# Altium footprint library adafruit.PCBLIB: 643 footprints (part 36 of 41)
Each footprint in its own frame and in the unit in brackets; x right, y up, seen from the top. Pads: shape width x height; smd on the part's side, far side on the other; paste and mask are expansions set on the pad; w line width, h text height; cw(c..) or ccw(c..) is an arc to the next point about the centre after c.
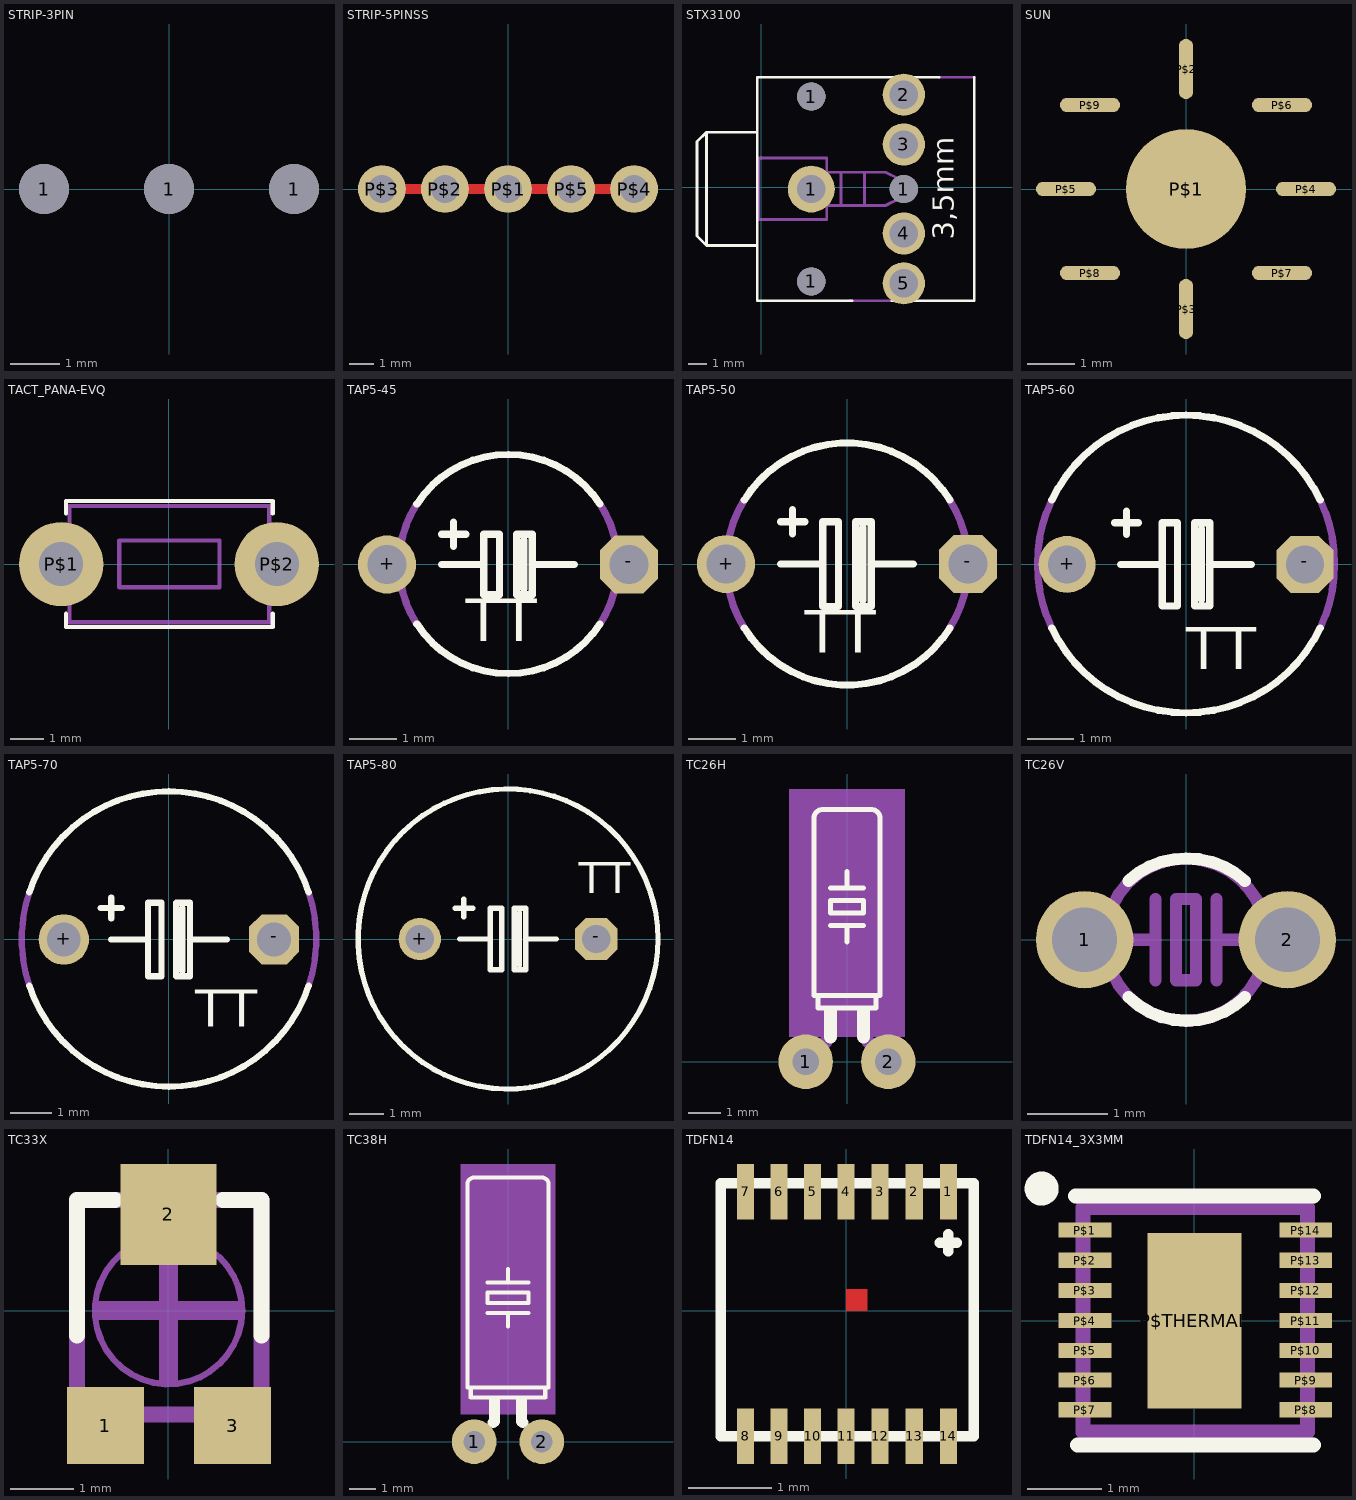
[diagram p35: the footprints below, top view; thin cyan lines are the x and y axes]

## STRIP-3PIN [mil]
pads (3):
  round 40 hole 40: 1(-100,0) 1(0,0) 1(100,0)
Top Layer:
  region: 0,0 10,0 10,10 0,10

## STRIP-5PINSS [mil]
pads (5):
  round 76 hole 44: P$1(0,0) P$2(-100,0) P$3(-200,0) P$4(200,0) P$5(100,0)
Top Layer:
  lines w16: -200,0 200,0

## STX3100 [mil]
pads (8):
  round 60 hole 60: 1(107,-200.79) 1(107,193) 1(304,-3.94)
  round 100 hole 60: 1(107,-3.94)
  round 90 hole 60: 2(304,197) 3(304,91) 4(304,-98.43) 5(304,-204.72)
Top Overlay:
  lines w6: 194,-241.81 -8.35,-241.81 -8.35,-123.94 ; 279,-241.81 454,-241.81 454,234 ; 379,234 -8.35,234 -8.35,117 ; -116.54,-123.94 -8.35,-123.94 ; -116.54,-123.94 -136.54,-103.94 -136.54,97 -116.54,117 ; -116.54,-123.94 -116.54,117 ; -116.54,117 -8.35,117 ; -8.35,-123.94 -8.35,117 ; 454,234 454,234
  text "3,5mm" at 425,-111.46 h77.5
Courtyard Bottom:
  lines w6: 190,-241.81 275,-241.81 ; 379,234 454,234 ; 140,-38.94 140,32 ; 140,-38.94 140,-68.94 -5.16,-68.94 -5.16,62 140,62 140,32 ; 140,-38.94 170,-38.94 ; 140,32 170,32 ; 170,-38.94 220,-38.94 ; 170,-38.94 170,32 ; 170,32 220,32 ; 220,-38.94 220,32 ; 220,-38.94 265,-38.94 295,-23.94 295,17 265,32 220,32

## SUN [mil]
pads (9):
  rrect100% 100x100 smd: P$1(0,0)
  rrect100% 12x50 smd: P$2(0,100) P$3(0,-100)
  rrect100% 50x12 smd: P$4(100,0) P$5(-100,0) P$6(80,70) P$7(80,-70) P$8(-80,-70) P$9(-80,70)

## TACT_PANA-EVQ [mil]
pads (2):
  round 100 hole 52: P$1(-127.95,0) P$2(128,0)
Top Overlay:
  lines w5: -122.05,-59.06 -122.05,-74.8 123,-74.8 123,-59.06 ; -122.05,60 -122.05,75 123,75 123,60
Courtyard Bottom:
  lines w5: -118.11,-19.68 -118.11,-68.9 119,-68.9 119,-19.68 ; -118.11,-19.68 -118.11,20 ; -118.11,-19.68 -118.11,20 ; -118.11,-19.68 -155.51,-19.68 -155.51,0 -155.51,20 -118.11,20 ; -118.11,20 -118.11,69 119,69 119,20 ; 119,-19.68 119,20 ; 119,-19.68 119,20 ; 119,-19.68 156,-19.68 156,20 ; 119,20 156,20 ; 119,20 156,20 ; -59.06,-27.56 60,-27.56 60,28 -59.06,28 -59.06,-27.56

## TAP5-45 [mil]
pads (2):
  round 48 hole 32: +(-100,0)
  oct 48x48 hole 32: -(100,0)
Top Overlay:
  lines w6: -75.37,-49.18 ccw(c0.32,0.21) 76,-49.18 ; -75.37,50 cw(c0.32,0.61) 76,50 ; -55,0 -20,0 ; -55,25 -35,25 ; -45,15 -45,35 ; 13,-20 13,20 ; 55,0 20,0 ; -20,0 -20,-25 -7,-25 -7,25 -20,25 -20,0 ; 20,0 20,-25 7,-25 7,25 20,25 20,0
  text "TT" at -35,-75 h60.45
Courtyard Bottom:
  lines w6: -75.37,-49.18 cw(c0.63,0.41) -75.37,50 ; 76,-49.18 ccw(c0,0.41) 76,50

## TAP5-50 [mil]
pads (2):
  round 48 hole 32: +(-100,0)
  oct 48x48 hole 32: -(100,0)
Top Overlay:
  lines w6: -84.87,-52.88 ccw(c0.07,0.04) 85,-52.88 ; -84.87,53 cw(c0.07,0.08) 85,53 ; -55,0 -20,0 ; -55,35 -35,35 ; -45,25 -45,45 ; 13,-30 13,30 ; 55,0 20,0 ; -20,0 -20,-35 -7,-35 -7,35 -20,35 -20,0 ; 20,0 20,-35 7,-35 7,35 20,35 20,0
  text "TT" at -35,-85 h60.45
Courtyard Bottom:
  lines w6: -84.87,-52.88 cw(c0.09,0.06) -84.87,53 ; 85,-52.88 ccw(c0.04,0.06) 85,53

## TAP5-60 [mil]
pads (2):
  round 48 hole 32: +(-100,0)
  oct 48x48 hole 32: -(100,0)
Top Overlay:
  lines w6: -113,-53.44 ccw(c0,0) 113,-53.44 ; -113,54 cw(c0,0.56) 113,54 ; -60,35 -40,35 ; -55,0 -20,0 ; -50,25 -50,45 ; 13,-30 13,30 ; 55,0 20,0 ; -20,0 -20,-35 -7,-35 -7,35 -20,35 -20,0 ; 20,0 20,-35 7,-35 7,35 20,35 20,0
  text "TT" at 0,-100 h60.45
Courtyard Bottom:
  lines w6: -113,-53.44 cw(c0.59,0.28) -113,54 ; 113,-53.44 ccw(c-0.59,0.28) 113,54

## TAP5-70 [mil]
pads (2):
  round 48 hole 32: +(-100,0)
  oct 48x48 hole 32: -(100,0)
Top Overlay:
  lines w6: -132.87,-44.09 ccw(c0.07,0.02) 133,-44.09 ; -132.87,45 cw(c0.07,0.89) 133,45 ; -65,30 -45,30 ; -55,0 -20,0 ; -55,20 -55,40 ; 13,-30 13,30 ; 55,0 20,0 ; -20,0 -20,-35 -7,-35 -7,35 -20,35 -20,0 ; 20,0 20,-35 7,-35 7,35 20,35 20,0
  text "TT" at 25,-95 h60.45
Courtyard Bottom:
  lines w6: -132.87,-44.09 cw(c1.37,0.45) -132.87,45 ; 133,-44.09 ccw(c-1.24,0.45) 133,45

## TAP5-80 [mil]
pads (2):
  round 48 hole 32: +(-100,0)
  oct 48x48 hole 32: -(100,0)
Top Overlay:
  circle w6: c0,0 r170
  lines w6: -60,35 -40,35 ; -55,0 -20,0 ; -50,25 -50,45 ; 13,-30 13,30 ; 55,0 20,0 ; -20,0 -20,-35 -7,-35 -7,35 -20,35 -20,0 ; 20,0 20,-35 7,-35 7,35 20,35 20,0
  text "TT" at 80,40 h60.45

## TC26H [mil]
pads (2):
  round 66 hole 32: 1(-50,0) 2(50,0)
Top Overlay:
  rectangle: 12,40 28,63
  rectangle: -28,40 -12,63
  lines w6: -20,165 0,165 ; -20,210 0,210 ; 0,145 0,165 ; 0,230 0,210 ; 20,165 0,165 ; 20,210 0,210 ; -35,80 -35,65 35,65 35,80 ; -35,80 -40,80 -40,295 cw(c-30,295) -30,305 30,305 cw(c30,295) 40,295 40,80 35,80 ; -35,80 35,80 ; -20,180 -20,195 20,195 20,180 -20,180
  lines w16: -20,30 -20,50 ; 20,30 20,45
Mechanical 10:
  rectangle: -70,30 70,330
Courtyard Bottom:
  lines w16: -50,0 -25,25 ; 25,25 50,0

## TC26V [mil]
pads (2):
  round 48 hole 32: 1(-50,0) 2(50,0)
Top Overlay:
  lines w6: -28.28,-28.28 ccw(c0,0) 0,-40 ccw(c0.36,0.86) 29,-28.28 ; -28.28,29 cw(c-0.86,0.36) 0,40 cw(c1.22,-0.51) 29,29
Courtyard Bottom:
  circle w6: c0,0 r40
  lines w6: -30,0 -15,0 ; -15,-20 -15,0 ; -15,20 -15,0 ; 15,-20 15,0 ; 15,20 15,0 ; 30,0 15,0 ; -5,-20 5,-20 5,20 -5,20 -5,-20

## TC33X [mil]
pads (3):
  rect 48x48 smd: 1(-39.37,-71.85) 3(40,-71.85)
  rect 60x63 smd: 2(0,60)
Top Overlay:
  lines w10: -57.09,-15.75 -57.09,69 -33.46,69 ; 34,69 58,69 58,-15.75
Courtyard Bottom:
  circle w4: c0,0 r46
  rectangle: -45.28,-5.91 46,6
  rectangle: -5.91,-45.28 6,46
  lines w10: -57.09,-64.96 -57.09,69 58,69 58,-64.96 -57.09,-64.96

## TC38H [mil]
pads (2):
  round 66 hole 32: 1(-50,0) 2(50,0)
Top Overlay:
  rectangle: 12,40 28,63
  rectangle: -28,40 -12,63
  lines w6: -30,190 0,190 ; -30,235 0,235 ; 0,170 0,190 ; 0,255 0,235 ; 30,190 0,190 ; 30,235 0,235 ; -55,80 -55,65 55,65 55,80 ; -55,80 -60,80 -60,380 cw(c-50,380) -50,390 50,390 cw(c50,380) 60,380 60,80 55,80 ; -55,80 55,80 ; -30,205 -30,220 30,220 30,205 -30,205
  lines w16: -22,28 -20,30 -20,40 ; 20,45 20,30 22,28
Mechanical 10:
  rectangle: -70,40 70,410
Courtyard Bottom:
  lines w6: -50,0 -25,25 ; 25,25 50,0

## TDFN14 [mil]
pads (14):
  rect 8x26 smd: 1(48,56) 2(32,56) 3(16,56) 4(0,56) 5(-15.75,56) 6(-31.5,56) 7(-47.24,56) 8(-47.24,-59.06) 9(-31.5,-59.06) 10(-15.75,-59.06) 11(0,-59.06) 12(16,-59.06) 13(32,-59.06) 14(48,-59.06)
Top Layer:
  region: 0,0 10,0 10,10 0,10
Top Overlay:
  lines w5: 44,32 52,32 ; 48,28 48,36 ; -59.06,-59.06 60,-59.06 60,60 -59.06,60 -59.06,-59.06
Top Paste:
  region: 0,0 10,0 10,10 0,10
  region: 0,0 10,0 10,10 0,10
  region: 0,0 10,0 10,10 0,10
  region: 0,0 10,0 10,10 0,10
  region: 0,0 10,0 10,10 0,10
  region: 0,0 10,0 10,10 0,10
  region: 0,0 10,0 10,10 0,10
  region: 0,0 10,0 10,10 0,10
Top Solder:
  region: 0,0 10,0 10,10 0,10

## TDFN14_3X3MM [mil]
pads (15):
  rect 28x8 smd: P$1(-58.07,48) P$2(-58.07,32) P$3(-58.07,16) P$4(-58.07,0) P$5(-58.07,-15.75) P$6(-58.07,-31.5) P$7(-58.07,-47.24) P$8(59,-47.24) P$9(59,-31.5) P$10(59,-15.75) P$11(59,0) P$12(59,16) P$13(59,32) P$14(59,48)
  rect 50x93 smd: P$THERMAL(0,0)
Top Overlay:
  circle w12: c-81,70 r3
  lines w8: -62.99,66 63,66 ; -62.01,-65.94 63,-65.94
Top Paste:
  rectangle: -19.68,8 -3.94,40
  rectangle: 4,8 20,40
  rectangle: -19.68,-39.37 -3.94,-7.87
  rectangle: 4,-39.37 20,-7.87
  rectangle: -71.85,44 -44.29,52
  rectangle: -71.85,28 -44.29,36
  rectangle: -71.85,12 -44.29,20
  rectangle: -71.85,-3.94 -44.29,4
  rectangle: -71.85,-19.68 -44.29,-11.81
  rectangle: -71.85,-35.43 -44.29,-27.56
  rectangle: -71.85,-51.18 -44.29,-43.31
  region: 72,52 45,52 45,44 72,44
  region: 72,36 45,36 45,28 72,28
  region: 72,20 45,20 45,12 72,12
  region: 72,4 45,4 45,-3.94 72,-3.94
  region: 72,-11.81 45,-11.81 45,-19.68 72,-19.69
  region: 72,-27.56 45,-27.56 45,-35.43 72,-35.43
  region: 72,-43.31 45,-43.31 45,-51.18 72,-51.18
Top Solder:
  rectangle: -74.8,-54.13 -41.34,55
  rectangle: 42,-54.13 75,55
Courtyard Bottom:
  lines w8: -59.06,-59.06 60,-59.06 60,60 -59.06,60 -59.06,-59.06